# EAGLE library part IMU_10DOF (library Skippy-ExtBoards)
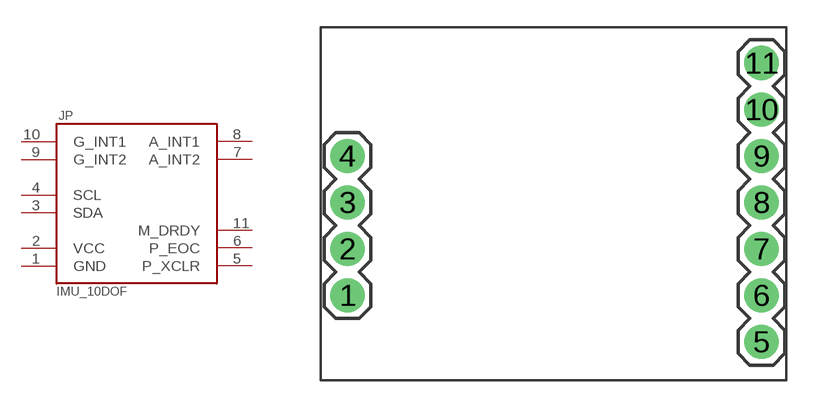
[diagram p1: symbol with the pads of IMU_10DOF; footprint IMU_10DOF]

Designator prefix JP

## IMU_10DOF  [IMU_10DOF]
1  GND  pwr
2  VCC  pwr
3  SDA
4  SCL  in
5  P_XCLR
6  P_EOC
7  A_INT2  out
8  A_INT1  out
9  G_INT2  out
10  G_INT1  out
11  M_DRDY  out

## Footprint IMU_10DOF (pad centres in mm)
drill 1.016 pad 1.88: 1 -11.246,-5; 2 -11.246,-2.46; 3 -11.246,0.08; 4 -11.246,2.62; 5 11.36,-7.54; 6 11.36,-5; 7 11.36,-2.46; 8 11.36,0.08; 9 11.36,2.62; 10 11.36,5.16; 11 11.36,7.7